# EAGLE library part GRAPHIC_LCD (library custom)
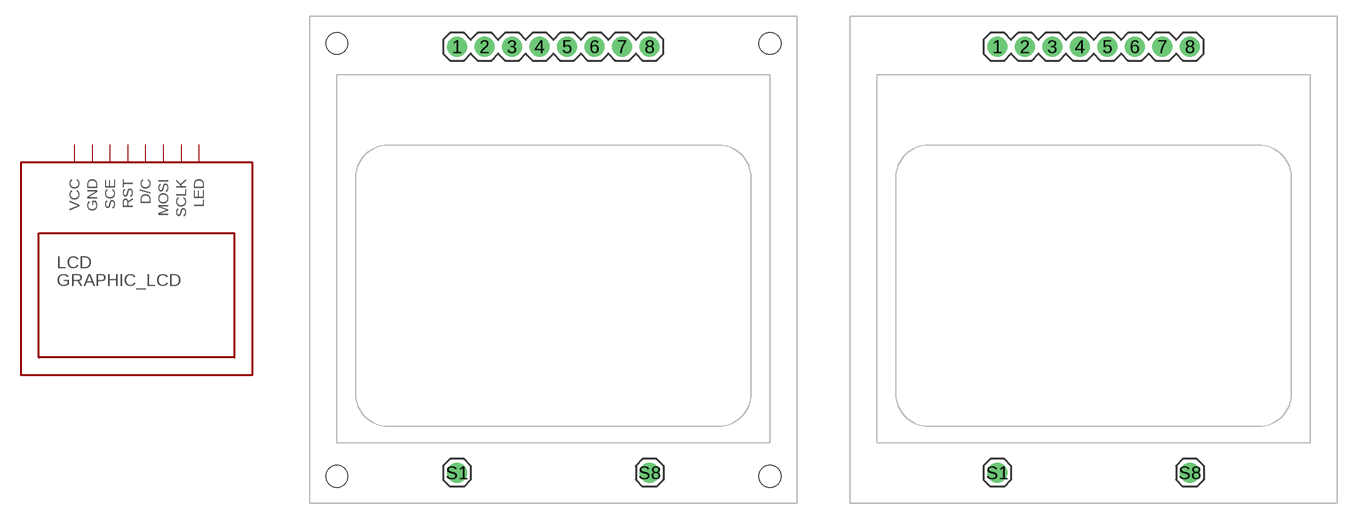
[diagram p54: symbol with the pads of NOKIA_5110_LCD; footprints NOKIA_5110_LCD, NOKIA_5110_LCD_NOHOLES]

Designator prefix LCD

## GRAPHIC_LCDH  [NOKIA_5110_LCD]
1  VCC
2  GND
3  SCE
4  RST
5  D/C
6  MOSI
7  SCLK
8  LED

## GRAPHIC_LCDNH  [NOKIA_5110_LCD_NOHOLES]
Pads as for NOKIA_5110_LCD

## GRAPHIC_LCDBLUE  [NOKIA_5110_LCD_NOHOLES_SINGLEROW]
1  GND
2  LED
3  VCC
4  SCLK
5  MOSI
6  D/C
7  SCE
8  RST

## GRAPHIC_LCDBLUEH  [NOKIA_5110_LCD_SINGLEROW_BLUE]
Pads as for NOKIA_5110_LCD_NOHOLES_SINGLEROW

## Footprint NOKIA_5110_LCD (pad centres in mm)
drill 1.016 pad 1.88: 1 -8.89,19.685; 2 -6.35,19.685; 3 -3.81,19.685; 4 -1.27,19.685; 5 1.27,19.685; 6 3.81,19.685; 7 6.35,19.685; 8 8.89,19.685; S1 -8.89,-19.685; S8 8.89,-19.685
hole 2 at -20,20
hole 2 at 20,20
hole 2 at 20,-20
hole 2 at -20,-20

## Footprint NOKIA_5110_LCD_NOHOLES (pad centres in mm)
drill 1.016 pad 1.88: 1 -8.89,19.685; 2 -6.35,19.685; 3 -3.81,19.685; 4 -1.27,19.685; 5 1.27,19.685; 6 3.81,19.685; 7 6.35,19.685; 8 8.89,19.685; S1 -8.89,-19.685; S8 8.89,-19.685

## Footprint NOKIA_5110_LCD_NOHOLES_SINGLEROW (pad centres in mm)
drill 1.016 pad 1.88: 1 -8.89,19.685; 2 -6.35,19.685; 3 -3.81,19.685; 4 -1.27,19.685; 5 1.27,19.685; 6 3.81,19.685; 7 6.35,19.685; 8 8.89,19.685

## Footprint NOKIA_5110_LCD_SINGLEROW_BLUE (pad centres in mm)
drill 1.016 pad 1.88: 1 -8.89,19.3; 2 -6.35,19.3; 3 -3.81,19.3; 4 -1.27,19.3; 5 1.27,19.3; 6 3.81,19.3; 7 6.35,19.3; 8 8.89,19.3
hole 3.175 at -17.5,20.5
hole 3.175 at 17.5,20.5